# Altium footprint library SOCKET_CARD.PcbLib: 31 footprints (part 2 of 2)
Each footprint in its own frame and in the unit in brackets; x right, y up, seen from the top. Pads: shape width x height; smd on the part's side, far side on the other; paste and mask are expansions set on the pad; w line width, h text height; cw(c..) or ccw(c..) is an arc to the next point about the centre after c.
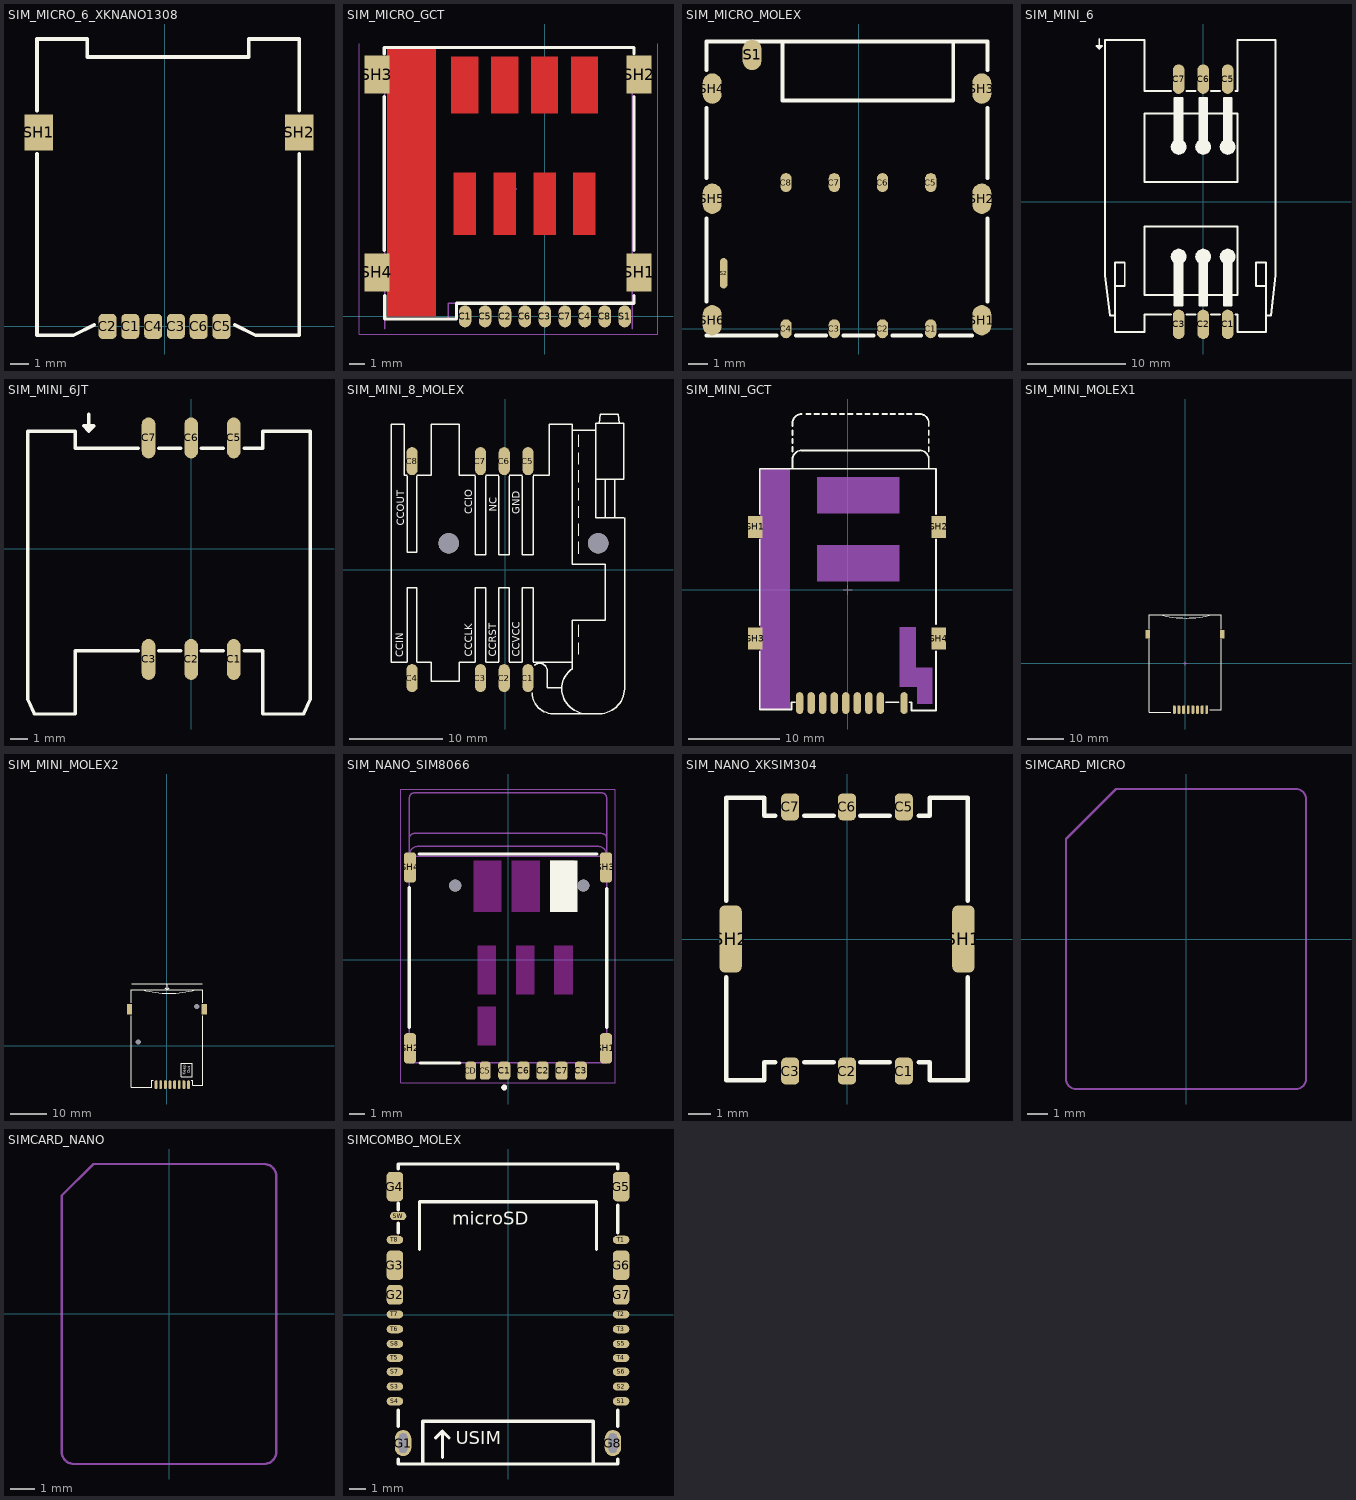
[diagram p1: the footprints below, top view; thin cyan lines are the x and y axes]

## SIM_MICRO_6_XKNANO1308 [mm] "Micro SIM Card Connector, 6 Pin XKNANO-1308"
height 1.5
pads (8):
  rrect50% 1x1.4 smd mask+0.05: C1(-1.905,0) C2(-3.175,0) C3(0.635,0) C4(-0.635,0) C5(3.175,0) C6(1.905,0)
  rect 1.6x2 smd: SH1(-7,10.8) SH2(7.5,10.8)
Top Overlay:
  lines w0.2: -7.1,9.6 -7.1,-0.5 -5.1,-0.5 -3.9,0.1 ; -7.1,12 -7.1,16 -4.3,16 -4.3,15 4.7,15 4.7,16 7.5,16 7.5,12 ; 3.9,0.1 5.1,-0.5 7.5,-0.5 7.5,9.6
3D body "xknano-1308.stp": height 1.7, standoff -0.05, extent -7.33,-0.4 7.87,15.9

## SIM_MICRO_GCT [mm] "Micro SIM Card Connector, SIM7100, Push-Push Type, 8 Pin, SMT, 1.50mm Profile"
height 1.5
pads (13):
  oval 0.8x1.4 smd: C1(-5.08,0) C2(-2.54,0) C3(0,0) C4(2.54,0) C5(-3.81,0) C6(-1.27,0) C7(1.27,0) C8(3.81,0) S1(5.08,0)
  rect 1.6x2.4 smd: SH1(6,2.8) SH2(6,15.4) SH3(-10.7,15.4) SH4(-10.7,2.8)
Top Layer:
  pour cut-out: -6.94,17.005 -10.03,17.005 -10.03,0.005 -6.94,0.005
  pour cut-out: -5.95,16.525 -5.95,12.945 -4.25,12.945 -4.25,16.525
  pour cut-out: -3.41,16.525 -3.41,12.945 -1.71,12.945 -1.71,16.525
  pour cut-out: -0.87,16.525 -0.87,12.945 0.83,12.945 0.83,16.525
  pour cut-out: 1.67,16.525 1.67,12.945 3.37,12.945 3.37,16.525
  pour cut-out: -5.8,9.145 -4.4,9.145 -4.4,5.205 -5.8,5.205
  pour cut-out: -3.26,9.145 -1.86,9.145 -1.86,5.205 -3.26,5.205
  pour cut-out: -0.72,9.145 0.68,9.145 0.68,5.205 -0.72,5.205
  pour cut-out: 1.82,9.145 3.22,9.145 3.22,5.205 1.82,5.205
Top Overlay:
  lines w0.2: -10.225,4.215 -10.225,14.015 ; -10.225,16.715 -10.225,17.115 5.675,17.115 5.675,16.715 ; -10.2,1.315 -10.2,-0.165 -5.625,-0.165 -5.625,0.845 5.675,0.845 5.675,1.315 ; 5.675,4.215 5.675,14.015
Mechanical 13:
  lines w0.1: -10.2,-0.775 -10.2,15.385 ; -10.2,-0.165 -6.165,-0.165 -6.165,0.845 5.55,0.845 ; 5.55,-0.775 5.55,16.395
Mechanical 15:
  lines w0.05: -11.825,17.365 -11.825,-1.135 ; 7.175,17.365 7.175,-1.135 ; -11.825,-1.135 7.175,-1.135 ; -11.825,-1.135 7.175,-1.135
  lines w0.1: -2.825,8.115 -1.825,8.115 ; -2.325,7.615 -2.325,8.615
3D body "sim7100-8-1-15-00-a_reva.step": height 1.47, standoff -0.03, extent -10.7,-0.325 6.05,17.005

## SIM_MICRO_MOLEX [mm] "MOLEX PUSH/PULL MICROSIM SOCKET 78727"
height 1.4
pads (16):
  oval 0.6x1 smd: C1(3.8,0) C2(1.26,0) C3(-1.28,0) C4(-3.82,0) C5(3.8,7.7) C6(1.26,7.7) C7(-1.28,7.7) C8(-3.82,7.7)
  oval 1x1.6 smd: S1(-5.61,14.425) SH1(6.49,0.45) SH2(6.49,6.85) SH3(6.49,12.65) SH4(-7.71,12.65) SH5(-7.71,6.85) SH6(-7.71,0.45)
  oval 0.4x1.6 smd: S2(-7.11,2.925)
Top Overlay:
  lines w0.2: -8.01,-0.35 -4.31,-0.35 ; -8.01,1.425 -8.01,5.825 ; -8.01,7.925 -8.01,11.625 ; -8.01,13.625 -8.01,15.125 6.79,15.125 6.79,13.625 ; -4.01,15.125 -4.01,12.025 4.99,12.025 4.99,15.125 ; -3.31,-0.35 -1.71,-0.35 ; -0.81,-0.35 0.79,-0.35 ; 1.79,-0.35 3.29,-0.35 ; 4.29,-0.35 5.99,-0.35 ; 6.79,1.425 6.79,5.825 ; 6.79,7.925 6.79,11.625
3D body "787270001.stp": height 1.45, standoff 0.05, extent -7.85,-0.185 6.68,15.035

## SIM_MINI_6 [mm] "SIM MINI,"
height 0.254
pads (6):
  oval 1.2x3 smd: C1(2.499,-12.501) C2(0,-12.501) C3(-2.499,-12.501) C5(2.499,12.501) C6(0,12.501) C7(-2.499,12.501)
Top Overlay:
  drawing of 830 lines, arcs and shapes, not listed
3D body "SIM card.STEP": height 2, standoff 1.2, extent -8.8,-9.2 6.2,15.8
3D body "SIMCARD6PIN.STEP": height 2.6, standoff -0.7, extent -9.9,-13.23 7.3,16.41

## SIM_MINI_6JT [mm] "SIM MINI, JTCONN"
height 0.254
pads (6):
  oval 0.8x2.4 smd: C1(2.499,-6.501) C2(0,-6.501) C3(-2.499,-6.501) C5(2.499,6.501) C6(0,6.501) C7(-2.499,6.501)
Top Overlay:
  lines w0.2: -9.6,-8.8 -9.2,-9.7 -6.8,-9.7 -6.8,-6 -3.1,-6 ; -6.8,6.9 -6.8,5.9 -3.1,5.9 ; -6,7.9 -6,6.9 ; -1.9,-6 -0.6,-6 ; -1.9,5.9 -0.6,5.9 ; 0.6,-6 1.9,-6 ; 0.6,5.9 1.9,5.9 ; 3.1,-6 4.2,-6 4.2,-9.7 ; 3.1,5.9 4.2,5.9 4.2,6.9 ; 6.6,-9.7 7,-8.8 ; -6,6.9 -6.3,7.2 -5.7,7.2 -6,6.9
  lines w0.203: -9.6,-8.8 -9.6,6.9 -6.8,6.9 ; 4.2,-9.7 6.6,-9.7 ; 4.2,6.9 7,6.9 7,-8.8
3D body "SIM card.STEP": height 1.55, standoff 0.75, extent -8.8,-8.9 6.2,16.1
3D body "User Library-Sim Card Holder.step": height 1.8, standoff 0, extent -9.5,-9.55 6.9,6.75

## SIM_MINI_8_MOLEX [mm] "SIM 8P, MOLEX 91228-3001, 2.54mm Pitch ChipSIM Connector with Ejector, 6 Circuits, without Pegs, Yellow Button"
height 1.016
pads (10):
  oval 1.2x3 smd: C1(2.44,-11.608) C2(-0.1,-11.608) C3(-2.64,-11.608) C4(-9.955,-11.608) C5(2.44,11.608) C6(-0.1,11.608) C7(-2.64,11.608) C8(-9.955,11.608)
  round 2.184 hole 2.184 unplated: ""(-6.045,2.826) ""(9.955,2.826)
Top Overlay:
  lines w0.051: 7.895,-9.068 7.895,-7.798 ; 7.895,-7.163 7.895,-5.893 ; 7.895,1.727 7.895,2.997 ; 7.895,3.632 7.895,4.902 ; 7.895,5.537 7.895,6.807 ; 7.895,7.442 7.895,8.712 ; 7.895,9.347 7.895,10.617 ; 7.895,11.252 7.895,12.522 ; 7.895,13.157 7.895,14.427
  lines w0.152: -10.463,-9.924 -12.168,-9.924 -12.168,15.576 -10.795,15.576 -10.795,10.076 -10.463,10.076 ; -10.463,-9.83 -10.463,-1.956 -9.447,-1.956 -9.447,-9.83 ; -10.463,9.982 -10.463,1.854 -9.447,1.854 -9.447,9.982 ; -9.447,-9.924 -7.93,-9.924 -7.93,-11.924 -4.93,-11.924 -4.93,-9.924 -3.224,-9.924 ; -9.447,10.076 -7.93,10.076 -7.93,15.576 -4.93,15.576 -4.93,10.076 -3.224,10.076 ; -3.224,-9.83 -3.224,-1.956 -2.081,-1.956 -2.081,-9.83 ; -3.224,9.982 -3.224,1.6 -2.081,1.6 -2.081,9.982 ; -2.081,-9.924 -0.684,-9.924 ; -2.081,10.076 -0.684,10.076 ; -0.684,-9.83 -0.684,-1.956 0.459,-1.956 0.459,-9.83 ; -0.684,9.982 -0.684,1.6 0.459,1.6 0.459,9.982 ; 0.459,-9.924 1.856,-9.924 ; 0.459,10.076 1.856,10.076 ; 1.856,-9.83 1.856,-1.956 2.999,-1.956 2.999,-9.83 ; 1.856,9.982 1.856,1.6 2.999,1.6 2.999,9.982 ; 2.882,-13.198 ccw(c5.155,-13.145) 5.102,-15.418 ; 2.999,-9.924 7.205,-9.924 ; 2.999,10.076 4.705,10.076 4.705,15.576 7.205,15.576 7.205,14.916 ; 3.137,-10.24 cw(c3.697,-10.846) 4.523,-10.846 4.523,-12.618 ; 4.523,-12.624 4.523,-12.618 ; 5.155,-15.418 10.111,-15.418 ccw(c10.047,-12.687) 12.778,-12.751 12.778,5.537 ; 6.047,-12.618 4.523,-12.618 ; 7.19,-10.592 ccw(c8.714,-12.781) 6.047,-12.751 ccw(c8.777,-12.687) 8.714,-15.418 ; 7.205,-10.592 7.205,-9.924 ; 12.705,5.576 11.705,5.576 ; 7.205,-9.924 7.205,-5.424 10.705,-5.424 10.705,0.576 7.205,0.576 7.205,14.916 ; 7.205,14.916 9.705,14.916 ; 9.705,9.655 10.705,9.655 ; 9.705,9.655 9.705,5.576 10.705,5.576 ; 9.705,9.655 9.705,14.916 ; 9.705,14.916 9.705,15.655 10.07,15.655 ; 10.07,15.655 12.213,15.655 ; 10.07,15.655 10.197,16.655 12.086,16.655 12.213,15.655 ; 10.705,5.576 11.705,5.576 ; 10.705,5.576 10.705,9.655 ; 10.705,9.655 11.705,9.655 ; 11.705,5.576 11.705,9.655 ; 11.705,9.655 12.705,9.655 12.705,15.655 12.213,15.655
  text "CCVCC" at 1.58,-9.339 h0.8
  text "CCRST" at -0.96,-9.339 h0.8
  text "CCCLK" at -3.5,-9.339 h0.8
  text "CCIN" at -10.9,-9.4 h0.8
  text "CCOUT" at -10.8,4.7 h0.8
  text "CCIO" at -3.5,5.901 h0.8
  text "NC" at -0.9,6.2 h0.8
  text "GND" at 1.58,5.901 h0.8
3D body "SIM card.STEP": height 2.4, standoff 1.6, extent -7.1,-10.2 7.9,14.8
3D body "User Library-912283001.STEP": height 3.1, standoff 0, extent -12.168,-15.297 12.832,16.903

## SIM_MINI_GCT [mm] "SIM MINI, GCT SIM4065, Push-Push Type, 8 Pin, SMT with Card Detect, 1.60mm Profile Height,  pitch: 1.27mm 26.3x19.3mm"
height 1.6
pads (13):
  oval 0.8x2.4 smd: C1(-5.315,-12.5) C2(-2.775,-12.5) C3(-0.235,-12.5) C4(2.305,-12.5) C5(-4.045,-12.5) C6(-1.505,-12.5) C7(1.035,-12.5) C8(3.575,-12.5) S1(6.185,-12.5)
  rect 1.6x2.4 smd: SH1(-10.2,6.9) SH2(10,6.9) SH3(-10.2,-5.4) SH4(10,-5.4)
Top Overlay:
  lines w0.2: -9.715,-6.8 -9.715,-13.2 -6.215,-13.2 -6.215,-12.4 -5.815,-12.4 ; -9.715,8.3 -9.715,13.3 9.685,13.3 9.685,8.3 ; -9.7,-3.9 -9.7,5.5 ; -6.1,15.2 -6.1,15.7 ; -6.1,16.1 -6.1,16.6 ; -6.1,17 -6.1,17.5 ; -6.098,13.3 -6.098,14.326 cw(c-5.096,14.325) -5.096,15.328 7.903,15.328 cw(c7.903,14.325) 8.905,14.326 8.905,13.3 ; -6.098,18 -6.098,18.327 cw(c-5.096,18.327) -5.096,19.329 ; -6.02,18.708 -5.999,18.736 ; -5.964,18.814 -5.928,18.884 -5.802,19.033 ; -4.596,19.327 -4.096,19.327 ; -3.696,19.327 -3.196,19.327 ; -2.796,19.327 -2.296,19.327 ; -1.796,19.325 -1.296,19.325 ; -0.896,19.325 -0.396,19.325 ; 0.004,19.325 0.504,19.325 ; 1.004,19.323 1.504,19.323 ; 1.904,19.323 2.404,19.323 ; 2.804,19.323 3.304,19.323 ; 3.804,19.32 4.304,19.32 ; 4.185,-12.4 5.585,-12.4 ; 4.704,19.32 5.204,19.32 ; 5.604,19.32 6.104,19.32 ; 6.504,19.32 7.004,19.32 ; 6.785,-12.4 6.985,-12.4 6.985,-13.3 9.685,-13.3 9.685,-6.8 ; 7.404,19.32 7.903,19.32 ; 7.903,19.329 cw(c7.903,18.327) 8.905,18.327 8.905,18 ; 8.609,19.033 8.736,18.884 8.771,18.814 ; 8.807,18.736 8.828,18.708 ; 8.908,15.2 8.908,15.7 ; 8.908,16.1 8.908,16.6 ; 8.908,17 8.908,17.5 ; 9.7,-3.8 9.7,5.5
Mechanical 13:
  rectangle: -9.7,-13.2 -6.4,13.3
  rectangle: -3.4,8.4 5.7,12.4
  rectangle: -3.4,0.9 5.7,4.9
  rectangle: 7.6,-12.6 9.3,-8.6
  rectangle: 5.7,-10.7 9.3,-8.6
  rectangle: 5.7,-10.7 7.5,-4.1
  lines w0.1: -0.515,0 0.485,0 ; -0.015,-0.5 -0.015,0.5
  text "AVOID EXOPESED COPPER" at -4.5,6.2 h1
3D body "SIM4065-8-1-15-00-A_revA.STEP": height 1.8, standoff 0.15, extent -10.515,-13.2 10.485,13.2
3D body "SIM card.STEP": height 1.4, standoff 0.6, extent -6.1,-9.6 8.9,15.4

## SIM_MINI_MOLEX1 [mm] "SIM MINI, MOLEX PUSH PUSH pitch: 1.27mm 26.3x19.3mm"
height 1.8
pads (10):
  oval 0.8x2.4 smd: C1(-2.95,-12.7) C2(-0.41,-12.7) C3(2.13,-12.7) C5(-1.68,-12.7) C6(0.86,-12.7) C7(3.4,-12.7) S1(4.67,-12.7) S2(5.94,-12.7)
  rect 1.2x2.4 smd: SH1(-10.2,8) SH2(10.2,8)
Top Overlay:
  lines w0.2: -9.9,6.7 -9.9,-13.4 -4,-13.4 ; -9.9,9.3 -9.9,13.4 9.9,13.4 9.9,9.4 ; -6.994,13.4 ccw(c0.253,40.446) 7.5,13.4 ; 6.8,-12.8 9.9,-12.8 9.9,6.6
Mechanical 13:
  lines w0.1: -0.5,0 0.5,0 ; 0,-0.5 0,0.5
3D body "MINI-SIM-MOLEX.stp": height 1.84, standoff 0.01, extent -10.5,-13.25 10.45,13.25
3D body "SIM card.STEP": height 1.55, standoff 0.75, extent -5.9,-9.5 9.1,15.5

## SIM_MINI_MOLEX2 [mm] "SIM MINI, with Locator, MOLEX 47553-1001"
pads (12):
  oval 0.8x2.4 smd mask+0.051: C1(-2.985,-10.7) C2(-0.445,-10.7) C3(2.095,-10.7) C5(-1.715,-10.7) C6(0.825,-10.7) C7(3.365,-10.7) S1(4.635,-10.7) S2(5.905,-10.7)
  rect 1.5x2.95 smd: SH1(-10.275,9.965) SH2(10.275,9.965)
  rrect70% 0x0 hole 1.4: ""(-7.885,0.935) ""(8.165,10.735)
Top Overlay:
  lines w0.2: -9.775,8.165 -9.775,-11.385 -4.195,-11.385 -4.195,-9.545 -3.805,-9.545 ; -9.775,11.765 -9.775,15.3 9.775,15.3 9.775,11.765 ; -9.675,17.015 9.675,17.015 ; -6.694,15.3 ccw(c0.553,42.346) 7.8,15.3 ; -0.595,15.865 0.005,15.265 ; 0.005,17 0.005,15.265 ; 0.605,15.865 0.005,15.265 ; 6.705,-9.535 7.105,-9.535 7.105,-10.835 9.775,-10.835 9.775,8.165 ; 3.975,-8.485 3.975,-4.785 6.975,-4.785 6.975,-8.485 3.975,-8.485
  text "Out" at 6.405,-7.635 h0.8
  text "Keep" at 5.105,-8.035 h0.8
Mechanical 29:
  text ".Designator" at 4.805,-0.235 h1.52
3D body "475531001.stp": height 1.8, standoff -0.7, extent -10.445,-11.285 10.505,15.215
3D body "SIM card.STEP": height 1.55, standoff 0.75, extent -5.9,-8 9.1,17

## SIM_NANO_SIM8066 [mm] "Nano SIM Card Connector, GCT_SIM8066-6-1-14-01-A"
pads (13):
  rrect50% 0.8x1.2 smd: C1(-0.25,-7.37) C2(2.29,-7.37) C3(4.83,-7.37) C6(1.02,-7.37) C7(3.56,-7.37)
  rrect50% 0.7x1.2 smd: C5(-1.52,-7.37) CD(-2.47,-7.37)
  rrect50% 0.8x2 smd: SH1(6.5,-5.89) SH2(-6.5,-5.89) SH3(6.5,6.11) SH4(-6.5,6.11)
  round 0.8 hole 0.8 unplated: ""(-3.5,4.9) ""(5,4.9)
Top Layer keep-out:
  region: 3.08,0.915 4.28,0.915 4.28,-2.295 3.08,-2.295
  region: 0.54,0.915 1.74,0.915 1.74,-2.295 0.54,-2.295
  region: -2,0.915 -0.8,0.915 -0.8,-2.295 -2,-2.295
  region: -2.285,6.56 -0.435,6.56 -0.435,3.16 -2.285,3.16
  region: 2.795,6.56 4.4,6.56 4.4,3.16 2.795,3.16
  region: 0.255,6.56 2.105,6.56 2.105,3.16 0.255,3.16
  region: -2,-3.135 -0.8,-3.135 -0.8,-5.685 -2,-5.685
Top Overlay:
  circle w0.2: c-0.25,-8.49 r0.1
  region: 2.795,6.56 4.6,6.56 4.6,3.16 2.795,3.16
  lines w0.2: -6.55,-4.5 -6.55,4.76 ; -5.9,7 5.9,7 ; -5.83,-6.86 -3.19,-6.86 ; 6.55,-4.5 6.55,4.7
Mechanical 13:
  circle w0.2: c-0.25,-8.49 r0.1
  lines w0.1: -6.545,10.71 -6.545,8.06 ; -6.545,10.713 cw(c-6.198,10.713) -6.198,11.06 ; -6.2,11.06 6.2,11.06 ; 6.198,8.36 cw(c6.198,8.013) 6.545,8.013 ; 6.198,11.06 cw(c6.198,10.713) 6.545,10.713 ; 6.2,8.36 -6.2,8.36 ccw(c-6.222,8.037) -6.545,8.06 ; 6.545,10.71 6.545,8.01 6.545,6.86 ; -6.545,6.86 cw(c-5.947,6.913) -6,7.51 6,7.51 cw(c5.947,6.913) 6.545,6.86 ; -6.545,6.86 -6.545,-6.86 6.545,-6.86 6.545,6.86 ; -6.545,6.86 6.545,6.86 ; -6.545,6.86 -6.545,8.06
Mechanical 15:
  lines w0.05: -7.1,-8.19 7.1,-8.19 7.1,11.31 -7.1,11.31 -7.1,-8.19
3D body "sim8066-6-1-14-01-a.stp": height 1.43, standoff -0.38, extent -6.556,-7.61 6.534,6.97

## SIM_NANO_XKSIM304 [mm] "Nano SIM Card Connector, XKSIM-304"
pads (8):
  rrect50% 0.8x1.2 smd: C1(2.54,-5.9) C2(0,-5.9) C3(-2.54,-5.9) C5(2.54,5.9) C6(0,5.9) C7(-2.54,5.9)
  rrect50% 1x3 smd: SH1(5.2,0) SH2(-5.2,0)
Top Overlay:
  lines w0.2: -5.4,-1.7 -5.4,-6.3 -3.7,-6.3 -3.7,-5.5 -3.2,-5.5 ; -5.4,1.7 -5.4,6.3 -3.7,6.3 -3.7,5.5 -3.2,5.5 ; -1.9,-5.5 -0.6,-5.5 ; -1.9,5.5 -0.6,5.5 ; 0.6,-5.5 1.9,-5.5 ; 0.6,5.5 1.9,5.5 ; 3.2,-5.5 3.7,-5.5 3.7,-6.3 5.4,-6.3 5.4,-1.7 ; 3.2,5.5 3.7,5.5 3.7,6.3 5.4,6.3 5.4,1.7
3D body "xksim-304.stp": height 1.4, standoff -0.3, extent -5.345,-6.18 5.505,6.12
3D body "SIMCARD_NANO.step": height 1.2, standoff 0.44, extent -4.4,-6.15 4.4,6.15

## SIMCARD_MICRO [mm] "15mmX12mm"
Mechanical 13:
  lines w0.1: -6,-7 ccw(c-5.5,-7) -5.5,-7.5 5.5,-7.5 ccw(c5.5,-7) 6,-7 6,7 ccw(c5.5,7) 5.5,7.5 -3.5,7.5 -6,5 -6,-7
3D body "SIMCARD_MICRO.step": height 0.8, standoff 0.04, extent -6,-7.5 6,7.5

## SIMCARD_MINI [mm] "25mmX15mmX0.76mm"
3D body "SIMCARD_MINI.step": height 0.9, standoff 0.14, extent -7.5,-12.5 7.5,12.5

## SIMCARD_NANO [mm] "15mmX12mm"
Mechanical 13:
  lines w0.1: -4.4,-5.65 ccw(c-3.9,-5.65) -3.9,-6.15 3.9,-6.15 ccw(c3.9,-5.65) 4.4,-5.65 4.4,5.65 ccw(c3.9,5.65) 3.9,6.15 -3.1,6.15 -4.4,4.85 -4.4,-5.65
3D body "SIMCARD_NANO.step": height 0.8, standoff 0.04, extent -4.4,-6.15 4.4,6.15

## SIMCOMBO_MOLEX [mm] "MOLEX MICROSIM+SD SOCKET 104168-1620"
height 2.3
pads (25):
  oval 1x1.6 hole 0.5 slot 1.2 at 90 deg: G1(-6.4,-7.825) G8(6.4,-7.825)
  rrect50% 1x1.2 smd: G2(-6.9,1.225) G7(6.9,1.225)
  rrect50% 1x1.8 smd: G3(-6.9,3.025) G4(-6.9,7.825) G5(6.9,7.825) G6(6.9,3.025)
  oval 1x0.5 smd: S1(6.9,-5.275) S2(6.9,-4.375) S3(-6.9,-4.375) S4(-6.9,-5.275) S5(6.9,-1.775) S6(6.9,-3.475) S7(-6.9,-3.475) S8(-6.9,-1.775) SW(-6.7,6.025) T1(6.9,4.575) T2(6.9,0.025) T3(6.9,-0.875) T4(6.9,-2.625) T5(-6.9,-2.625) T6(-6.9,-0.875) T7(-6.9,0.025) T8(-6.9,4.575)
Top Overlay:
  lines w0.2: -6.7,-8.8 -6.7,-9.1 6.7,-9.1 6.7,-8.8 ; -6.7,-6.8 -6.7,-5.8 ; -6.7,5 -6.7,5.6 ; -6.7,6.4 -6.7,6.8 ; -6.7,8.9 -6.7,9.2 6.7,9.2 6.7,8.9 ; -5.4,4 -5.4,6.9 5.4,6.9 5.4,4 ; -5.2,-9.1 -5.2,-6.5 5.2,-6.5 5.2,-9.1 ; -4.4,-7.5 -4,-7.1 ; -4,-8.7 -4,-7.1 ; -3.6,-7.5 -4,-7.1 ; 6.7,-6.8 6.7,-5.8 ; 6.7,5 6.7,6.7
  text "USIM" at -3.2,-7.9 h0.8
  text "microSD" at -3.4,5.5 h0.8
3D body "1041681620.stp": height 2.25, standoff -0.7, extent -7.05,-9.025 7.05,9.275